# Altium schematic symbol library WE-VE femtoF.SchLib: 6 symbols
Pins are listed as number, name and electrical type; pins without a type are passive.

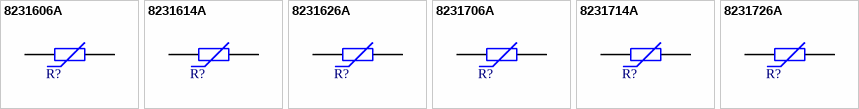
[diagram p0: symbols 8231606A to 8231726A]

## 8231606A
designator R?, comment 6VDC, 0.05pF  (value not drawn)
WE-VE femtoF ESD Suppressor, size 0603, 6VDC, 0.05pF; Manufacturer Part Number: 8231606A; Manufacturer: Wurth Elektronik; Case/Size Code: 0603; Clamping Voltage: 40V; ESD Air Discharge Capability: 15kV; ESD Contact Discharge Capability: 8kV; Leakage Current: 0.05µA; Operating Voltage (DC): 6V; ComponentLink1Description: Website Link; ComponentLink1URL: https://www.we-online.com/redexpert/article/8231606A?ad; ComponentLink2Description: Datasheet Link; ComponentLink2URL: https://www.we-online.com/redexpert/spec/8231606A?ad; Category: ESD Protection; Match Code: WE-VE femtoF; Mount: Surface Mount; Operating Temperature Max: 85°C; Operating Temperature Min: -40°C; Packaging: Tape and Reel; Length: 1.6mm; Width: 0.8mm; Height: 0.5mm; Capacitance: 0.05pF
footprint WE-VE femtoF_0603
pins: 1, 2

## 8231614A
designator R?, comment 14VDC, 0.05pF  (value not drawn)
WE-VE femtoF ESD Suppressor, size 0603, 14VDC, 0.05pF; Manufacturer Part Number: 8231614A; Manufacturer: Wurth Elektronik; Case/Size Code: 0603; Clamping Voltage: 45V; ESD Air Discharge Capability: 15kV; ESD Contact Discharge Capability: 8kV; Leakage Current: 0.05µA; Operating Voltage (DC): 14V; ComponentLink1Description: Website Link; ComponentLink1URL: https://www.we-online.com/redexpert/article/8231614A?ad; ComponentLink2Description: Datasheet Link; ComponentLink2URL: https://www.we-online.com/redexpert/spec/8231614A?ad; Category: ESD Protection; Match Code: WE-VE femtoF; Mount: Surface Mount; Operating Temperature Max: 85°C; Operating Temperature Min: -40°C; Packaging: Tape and Reel; Length: 1.6mm; Width: 0.8mm; Height: 0.5mm; Capacitance: 0.05pF
footprint WE-VE femtoF_0603
pins: 1, 2

## 8231626A
designator R?, comment 26VDC, 0.05pF  (value not drawn)
WE-VE femtoF ESD Suppressor, size 0603, 26VDC, 0.05pF; Manufacturer Part Number: 8231626A; Manufacturer: Wurth Elektronik; Case/Size Code: 0603; Clamping Voltage: 50V; ESD Air Discharge Capability: 15kV; ESD Contact Discharge Capability: 8kV; Leakage Current: 0.05µA; Operating Voltage (DC): 26V; ComponentLink1Description: Website Link; ComponentLink1URL: https://www.we-online.com/redexpert/article/8231626A?ad; ComponentLink2Description: Datasheet Link; ComponentLink2URL: https://www.we-online.com/redexpert/spec/8231626A?ad; Category: ESD Protection; Match Code: WE-VE femtoF; Mount: Surface Mount; Operating Temperature Max: 85°C; Operating Temperature Min: -40°C; Packaging: Tape and Reel; Length: 1.6mm; Width: 0.8mm; Height: 0.5mm; Capacitance: 0.05pF
footprint WE-VE femtoF_0603
pins: 1, 2

## 8231706A
designator R?, comment 6VDC, 0.05pF  (value not drawn)
WE-VE femtoF ESD Suppressor, size 0402, 6VDC, 0.05pF; Manufacturer Part Number: 8231706A; Manufacturer: Wurth Elektronik; Case/Size Code: 0402; Clamping Voltage: 40V; ESD Air Discharge Capability: 15kV; ESD Contact Discharge Capability: 8kV; Leakage Current: 0.05µA; Operating Voltage (DC): 6V; ComponentLink1Description: Website Link; ComponentLink1URL: https://www.we-online.com/redexpert/article/8231706A?ad; ComponentLink2Description: Datasheet Link; ComponentLink2URL: https://www.we-online.com/redexpert/spec/8231706A?ad; Category: ESD Protection; Match Code: WE-VE femtoF; Mount: Surface Mount; Operating Temperature Max: 85°C; Operating Temperature Min: -40°C; Packaging: Tape and Reel; Length: 1mm; Width: 0.52mm; Height: 0.41mm; Capacitance: 0.05pF
footprint WE-VE femtoF_0402
pins: 1, 2

## 8231714A
designator R?, comment 14VDC, 0.05pF  (value not drawn)
WE-VE femtoF ESD Suppressor, size 0402, 14VDC, 0.05pF; Manufacturer Part Number: 8231714A; Manufacturer: Wurth Elektronik; Case/Size Code: 0402; Clamping Voltage: 45V; ESD Air Discharge Capability: 15kV; ESD Contact Discharge Capability: 8kV; Leakage Current: 0.05µA; Operating Voltage (DC): 14V; ComponentLink1Description: Website Link; ComponentLink1URL: https://www.we-online.com/redexpert/article/8231714A?ad; ComponentLink2Description: Datasheet Link; ComponentLink2URL: https://www.we-online.com/redexpert/spec/8231714A?ad; Category: ESD Protection; Match Code: WE-VE femtoF; Mount: Surface Mount; Operating Temperature Max: 85°C; Operating Temperature Min: -40°C; Packaging: Tape and Reel; Length: 1mm; Width: 0.52mm; Height: 0.41mm; Capacitance: 0.05pF
footprint WE-VE femtoF_0402
pins: 1, 2

## 8231726A
designator R?, comment 26VDC, 0.05pF  (value not drawn)
WE-VE femtoF ESD Suppressor, size 0402, 26VDC, 0.05pF; Manufacturer Part Number: 8231726A; Manufacturer: Wurth Elektronik; Case/Size Code: 0402; Clamping Voltage: 50V; ESD Air Discharge Capability: 15kV; ESD Contact Discharge Capability: 8kV; Leakage Current: 0.05µA; Operating Voltage (DC): 26V; ComponentLink1Description: Website Link; ComponentLink1URL: https://www.we-online.com/redexpert/article/8231726A?ad; ComponentLink2Description: Datasheet Link; ComponentLink2URL: https://www.we-online.com/redexpert/spec/8231726A?ad; Category: ESD Protection; Match Code: WE-VE femtoF; Mount: Surface Mount; Operating Temperature Max: 85°C; Operating Temperature Min: -40°C; Packaging: Tape and Reel; Length: 1mm; Width: 0.52mm; Height: 0.41mm; Capacitance: 0.05pF
footprint WE-VE femtoF_0402
pins: 1, 2